# Altium schematic symbol library Schlib1.SchLib: 37 symbols (part 2 of 2)
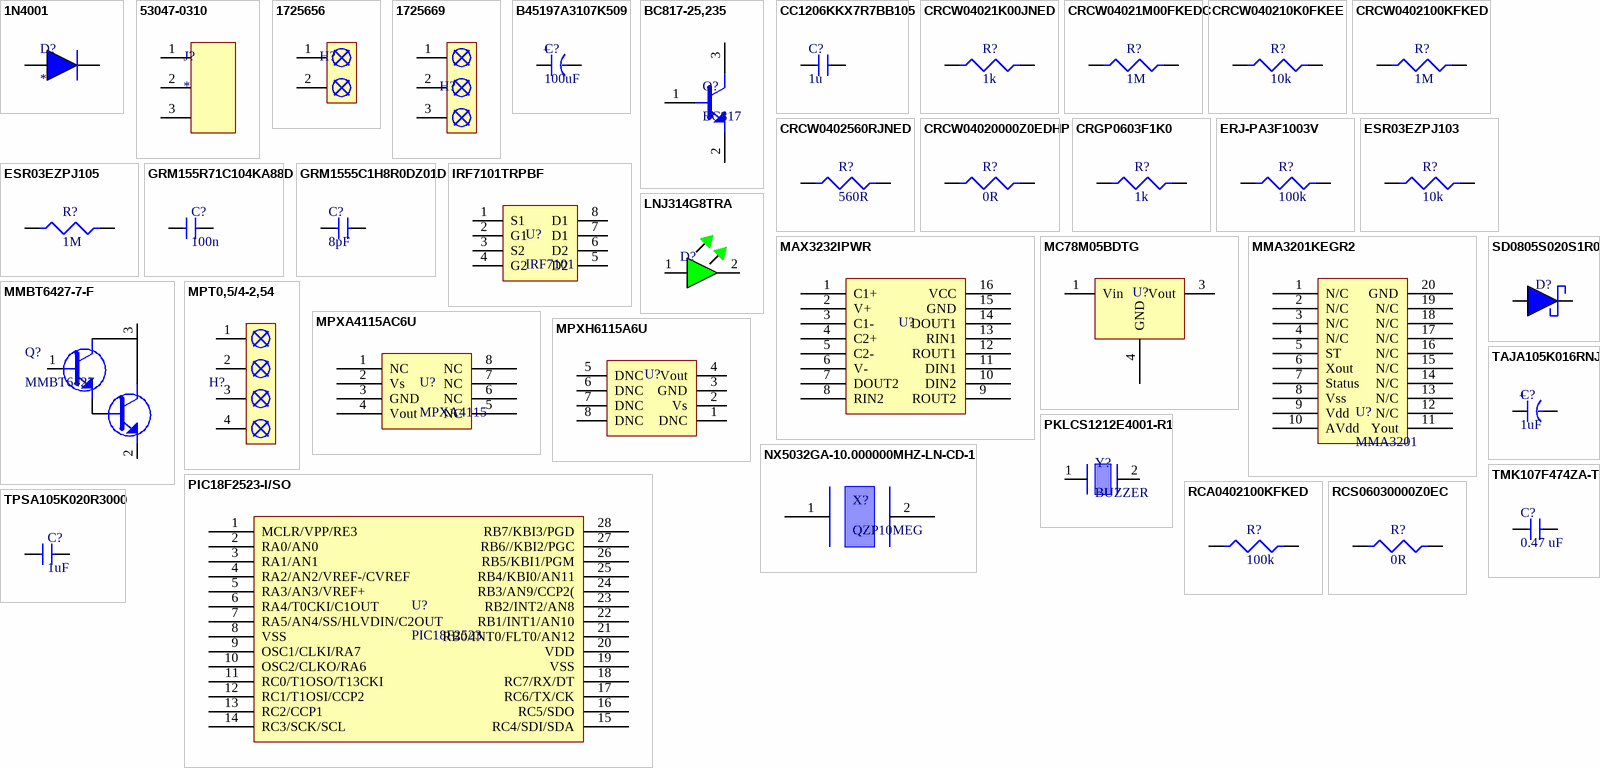
[diagram p1: symbols 1N4001 to TPSA105K020R3000]

## MC78M05BDTG
designator U?, comment MC78M05  (value not drawn)
MC78M00 Series 0.5 A 5 V Fixed Output SMT LDO Voltage Regulator - DPAK; Manufacturer: ON Semiconductor; Manufacturer Part Number: MC78M05BDTG; Output Voltage: 5V; Number of Outputs: 1; Max Input Voltage: 35V; Max Output Current: 500mA; Dropout Voltage: 2V; Min Input Voltage: 7V; Polarity: Positive; Power Supply Rejection Ratio (PSRR): 80dB; Current Rating: 700mA; Input Bias Current: 3.2mA; Accuracy: 4%; Supplier 1: Future Electronics; RoHS: Yes; Category: Voltage Regulators - Linear; Stock 1: 7370; Pricing 1: 1=0,22, 200=0,215, 750=0,205, 2000=0,198, 7500=0,185 (USD); Mount: Surface Mount; Case/Package: DPAK; Number of Pins: 3; Min Operating Temperature: -40°C; Max Operating Temperature: 125°C; Packaging: Rail/Tube; Package Quantity: 75; Output Current: 500mA; Nominal Output Voltage: 5V; Number of Regulators: 1; Min Output Voltage: 5V; Operating Supply Voltage: 35V; Output Type: Fixed; Series: -; Output Configuration: Positive; Nominal Supply Current: 3.2mA; Number of Channels: 1; Length: 6.73mm; Width: 6.22mm; Height: 2.38mm; Radiation Hardening: No; Reach SVHC Compliant: No; Lead Free: Lead Free; Halogen Free: Halogen Free; RoHS Compliant: Yes; ComponentLink1URL: https://datasheet.ciiva.com/2052/mc78m00-d-2052360.pdf?src-supplier=Digikey; ComponentLink1Description: https://datasheet.ciiva.com/2052/mc78m00-d-2052360.pdf?src-supplier=Digikey; ComponentLink2URL: https://datasheet.ciiva.com/3224/mc78m00-d-3224079.pdf?src-supplier=Avnet; ComponentLink2Description: https://datasheet.ciiva.com/3224/mc78m00-d-3224079.pdf?src-supplier=Avnet; ComponentLink3URL: https://datasheet.ciiva.com/16381/mc78m00-d-16381163.pdf?src-supplier=Future+Electronics; ComponentLink3Description: https://datasheet.ciiva.com/16381/mc78m00-d-16381163.pdf?src-supplier=Future+Electronics; ComponentLink4URL: https://datasheet.ciiva.com/7992/1746757-7992652.pdf?src-supplier=Element14; ComponentLink4Description: https://datasheet.ciiva.com/7992/1746757-7992652.pdf?src-supplier=Element14; ComponentLink5URL: https://datasheet.ciiva.com/4882/mc78m00-d-88441-4882543.pdf?src-supplier=Mouser; ComponentLink5Description: https://datasheet.ciiva.com/4882/mc78m00-d-88441-4882543.pdf?src-supplier=Mouser; ComponentLink6URL: https://datasheet.ciiva.com/18435/70099623-18435694.pdf?src-supplier=Allied+Electronics; ComponentLink6Description: https://datasheet.ciiva.com/18435/70099623-18435694.pdf?src-supplier=Allied+Electronics; Supplier Part Number 1: 8771974
footprint MC78M05BDTG (D-PAK, 3-Pads, Body 6,21x6,73mm (max), IPC Low Density)
pins: 1 Vin, 3 Vout, 4 GND

## MMA3201KEGR2
designator U?, comment MMA3201
Accelerometer Dual ±40g 4.75V to 5.25V 47.5mV/g to 52.5mV/g 20-Pin SOIC T/R; Manufacturer: NXP Freescale; Manufacturer Part Number: MMA3201KEGR2; Supplier 1: Newark; RoHS: Yes; Category: Accelerometers; Pricing 1: 1000=10,72 (USD); Mount: Surface Mount; Case/Package: SOIC; Number of Pins: 20; Weight: 0.008826oz; Min Operating Temperature: -40°C; Max Operating Temperature: 125°C; Packaging: Tape and Reel; Series: MMA3201; Package Quantity: 1000; Operating Supply Voltage: 5.25V; RoHS Compliant: Yes; ComponentLink1URL: https://datasheet.ciiva.com/3271/mma3201keg-3271720.pdf?src-supplier=Avnet; ComponentLink1Description: https://datasheet.ciiva.com/3271/mma3201keg-3271720.pdf?src-supplier=Avnet; Supplier Part Number 1: 85AK8921
footprint MMA3201KEG
pins: 1 N/C, 2 N/C, 3 N/C, 4 N/C, 5 ST, 6 Xout, 7 Status, 8 Vss, 9 Vdd, 10 AVdd, 11 Yout, 12 N/C, 13 N/C, 14 N/C, 15 N/C, 16 N/C, 17 N/C, 18 N/C, 19 N/C, 20 GND

## MMBT6427-7-F
designator Q?, comment MMBT6427
MMBT6427 Series 40 V 500 mA NPN Surface Mount Darlington Transistor - SOT-23-3; Manufacturer: Diodes; Manufacturer Part Number: MMBT6427-7-F; Collector Emitter Voltage (VCEO): 40V; hFE Min: 10000; Max Collector Current: 500mA; Max Power Dissipation: 300mW; Emitter Base Voltage (VEBO): 12V; Collector Emitter Saturation Voltage: 1.2V; Number of Elements: 1; Collector-emitter Voltage-Max: 1.5V; Supplier 1: Digikey; RoHS: Yes; Category: BJTs; Stock 1: 25429; Pricing 1: 1=0,21, 10=0,128, 100=0,0796, 500=0,05812, 1000=0,05115 (USD); Mount: Surface Mount; Case/Package: SOT-23; Number of Pins: 3; Weight: 0.000282oz; Min Operating Temperature: -55°C; Max Operating Temperature: 150°C; Packaging: Tape and Reel; Package Quantity: 3000; Polarity: NPN; Collector Base Voltage (VCBO): 40V; Collector Emitter Breakdown Voltage: 40V; Max Breakdown Voltage: 40V; Current Rating: 500mA; Voltage Rating (DC): 40V; Series: Automotive, AEC-Q101; Length: 3.05mm; Width: 1.4mm; Height: 1mm; Radiation Hardening: No; Lead Free: Lead Free; RoHS Compliant: Yes; ComponentLink1URL: https://datasheet.ciiva.com/11211/ds30048-11211443.pdf?src-supplier=Avnet; ComponentLink1Description: https://datasheet.ciiva.com/11211/ds30048-11211443.pdf?src-supplier=Avnet; ComponentLink2URL: https://datasheet.ciiva.com/4459/ds30048-82966-4459317.pdf?src-supplier=Mouser; ComponentLink2Description: https://datasheet.ciiva.com/4459/ds30048-82966-4459317.pdf?src-supplier=Mouser; ComponentLink3URL: https://datasheet.ciiva.com/15139/getdatasheetpartid-67553-15139920.pdf?src-supplier=Verical; ComponentLink3Description: https://datasheet.ciiva.com/15139/getdatasheetpartid-67553-15139920.pdf?src-supplier=Verical; ComponentLink4URL: https://datasheet.ciiva.com/973/ds30048-973062.pdf?src-supplier=Digikey; ComponentLink4Description: https://datasheet.ciiva.com/973/ds30048-973062.pdf?src-supplier=Digikey; ComponentLink5URL: https://datasheet.ciiva.com/973/ds30048-973063.pdf?src-supplier=Digikey; ComponentLink5Description: https://datasheet.ciiva.com/973/ds30048-973063.pdf?src-supplier=Digikey; Supplier Part Number 1: MMBT6427-FDICT-ND
footprint MMBT6427-7-F (SOT223, 3-Leads, Body 2,90x2,36mm (avg), Pitch 1,75mm, IPC Medium Density)
pins: 1, 2, 3

## MPT0,5/4-2,54
designator H?  (value not drawn)
Wire-To-Board Terminal Block Rating to EN: 6 A @ 63 VAC/VDC Rating to UL: 6 A @ 125 VAC/VDC Temperature range: -20...; Manufacturer: Phoenix Contact; Manufacturer Part Number: MPT0,5/4-2,54; Max Current Rating: 6A; Max Supply Voltage: 63V; Wire Gauge (Max): 26AWG; Wire Gauge (Min): 20AWG; Supplier 1: Sourcengine; RoHS: Yes; Category: Terminal Blocks; Stock 1: 49; Number of Pins: 4; Housing Material: 4261ConductorMaterial; Termination: Screw; Number of Rows: 1NUMBER; Orientation: 5491OrientationType; Length: 10.62mm; Depth: 6.2mm; RoHS Compliant: Yes; ComponentLink1URL: https://www.distrelec.biz/Web/Downloads/20/76/uu142076.pdf?mime=application%2Fpdf&src-supplier=Distrelec; ComponentLink1Description: https://www.distrelec.biz/Web/Downloads/20/76/uu142076.pdf?mime=application%2Fpdf&src-supplier=Distrelec; Supplier Part Number 1: MPT0,5/4-2,54
footprint MPT 0,5/ 4-2,54
pins: 1, 2, 3, 4

## MPXA4115AC6U
designator U?, comment MPXA4115
Pressure Sensor 2.18 PSI ~ 22.48 PSI (15 kPa ~ 155 kPa) Absolute Male - 0.13" (3.17mm) Tube 0.2 V ~ 4.8 V 8-SMD, Gull Wing, Top Port; Manufacturer: NXP Semiconductors; Manufacturer Part Number: MPXA4115AC6U; Output Type: Analog Voltage,Analog; Accuracy: 1.5%; Port Style: Barbless; Max Pressure: 58.02PSI; Min Supply Voltage: 4.85V; Max Supply Voltage: 5.35V; Operating Supply Voltage: 5V; Supply Current: 7mA; Supplier 1: Arrow Electronics; RoHS: No; Category: Pressure Sensors; Stock 1: 160; Pricing 1: 40=15,7233, 80=15,4811, 120=14,4416 (USD); Case/Package: SMD/SMT; Number of Pins: 8; Min Operating Temperature: -40°C; Max Operating Temperature: 125°C; Series: MPXA4115A; Pressure Type: Absolute; Operating Pressure: 22.48PSI; Termination: PCB; Reach SVHC Compliant: No; ComponentLink1URL: https://datasheet.ciiva.com/2825/mpx4115a-2825422.pdf?src-supplier=Digikey; ComponentLink1Description: https://datasheet.ciiva.com/2825/mpx4115a-2825422.pdf?src-supplier=Digikey; ComponentLink2URL: https://datasheet.ciiva.com/1513/193192-1513860.pdf?src-supplier=Element14; ComponentLink2Description: https://datasheet.ciiva.com/1513/193192-1513860.pdf?src-supplier=Element14; Supplier Part Number 1: MPXA4115AC6U
footprint MPXA4115AC6U (SOP, 8-Leads, Body 10,66x10,66mm, Pitch 2,54mm, IPC Medium Density)
pins: 1 NC, 2 Vs, 3 GND, 4 Vout, 5 NC, 6 NC, 7 NC, 8 NC

## MPXH6115A6U
designator U?  (value not drawn)
SENSOR ABS PRESS 16.7PSI MAX; Manufacturer: NXP Semiconductors; Manufacturer Part Number: MPXH6115A6U; Output Type: Analog Voltage,Analog; Pressure Type: Absolute; Operating Pressure: 16.68PSI; Accuracy: 1.5%; Port Style: No Port; Max Pressure: 58.02PSI; Min Supply Voltage: 4.75V; Max Supply Voltage: 5.25V; Operating Supply Voltage: 5V; Supply Current: 6mA; Supplier 1: Arrow Electronics; RoHS: No; Category: Pressure Sensors; Stock 1: 5; Pricing 1: 65=9,711, 130=9,651, 520=8,857, 1040=8,847 (USD); Case/Package: SSOP; Number of Pins: 8; Min Operating Temperature: -40°C; Max Operating Temperature: 125°C; Series: MPXH6115A; Termination: PCB; Reach SVHC Compliant: No; ComponentLink1URL: https://datasheet.ciiva.com/2825/mpxa6115a-2825344.pdf?src-supplier=Digikey; ComponentLink1Description: https://datasheet.ciiva.com/2825/mpxa6115a-2825344.pdf?src-supplier=Digikey; ComponentLink2URL: https://datasheet.ciiva.com/1513/1748876-1513862.pdf?src-supplier=Element14; ComponentLink2Description: https://datasheet.ciiva.com/1513/1748876-1513862.pdf?src-supplier=Element14; Supplier Part Number 1: MPXH6115A6U
footprint MPXH6115A6U (SOP, 8-Leads, Body 7,37x7,37mm, Pitch 1,27mm, IPC Medium Density)
pins: 1 DNC, 2 Vs, 3 GND, 4 Vout, 5 DNC, 6 DNC, 7 DNC, 8 DNC

## NX5032GA-10.000000MHZ-LN-CD-1
designator X?, comment QZP10MEG
Crystal 10.0000MHZ 8PF SMD; Manufacturer: NDK; Manufacturer Part Number: NX5032GA-10.000000MHZ-LN-CD-1; Frequency: 10MHz; Frequency Tolerance: 50ppm; ESR (Equivalent Series Resistance): 120R; Supplier 1: Richardson RFPD; RoHS: Yes; Category: Crystals; Mount: Surface Mount; Case/Package: SMD/SMT; Number of Pins: 2; Min Operating Temperature: -10°C; Max Operating Temperature: 70°C; Package Quantity: 1; Load Capacitance: 8pF; Packaging: Cut Tape; Frequency Stability: 50ppm; Series: NX5032GA; Length: 0.197inch; Width: 0.126inch; Height: 0.059inch; ComponentLink1URL: https://datasheet.ciiva.com/856/nx5032ga-856809.pdf?src-supplier=Digikey; ComponentLink1Description: https://datasheet.ciiva.com/856/nx5032ga-856809.pdf?src-supplier=Digikey; ComponentLink2URL: https://datasheet.ciiva.com/856/nx5032ga-856810.pdf?src-supplier=Digikey; ComponentLink2Description: https://datasheet.ciiva.com/856/nx5032ga-856810.pdf?src-supplier=Digikey; ComponentLink3URL: https://datasheet.ciiva.com/856/nx5032ga-856811.pdf?src-supplier=Digikey; ComponentLink3Description: https://datasheet.ciiva.com/856/nx5032ga-856811.pdf?src-supplier=Digikey; Supplier Part Number 1: NX5032GA-10.00E
footprint NX5032GA-10.000000MHZ
pins: 1, 2

## PIC18F2523-I/SO
designator U?, comment PIC18F2523
Microchip PIC18F2523-I/SO; 8bit PIC Microcontroller; 40MHz; 32 kB Flash; 28-Pin SOIC; Interface: I2C,SPI,UART,USART; RAM Size: 1.5KB; Max Supply Voltage: 5.5V; Min Supply Voltage: 4.2V; Number of PWM Channels: 2; Max Power Dissipation: 1W; Number of I/Os: 25; Number of Timers/Counters: 4; Number of ADC Channels: 10; Density: 32KB; Number of UART Channels: 1; Data Bus Width: 8b; Number of Bits: 8; Oscillator Type: Internal; Watchdog Timer: Yes; Peripherals: Brown-out Detect/Reset,POR,PWM,WDT,HLVD,I2C; Supplier 1: Arrow Electronics; Manufacturer: Microchip; Manufacturer Part Number: PIC18F2523-I/SO; RoHS: Yes; Category: Microcontrollers; Stock 1: 54; Pricing 1: 54=4,674, 108=4,667 (USD); Mount: Surface Mount; Case/Package: SOIC; Number of Pins: 28; Min Operating Temperature: -40°C; Max Operating Temperature: 85°C; Frequency: 40MHz; Packaging: Rail/Tube; Package Quantity: 27; Number of Programmable I/O: 25; Max Frequency: 40MHz; Number of SPI Channels: 1; Number of I2C Channels: 1; Memory Type: FLASH; Termination: SMD/SMT; Memory Size: 32KB; Core Architecture: PIC; Series: PIC® 18F; Length: 17.9mm; Width: 7.5mm; Height: 2.35mm; Radiation Hardening: No; Reach SVHC Compliant: No; Lead Free: Lead Free; RoHS Compliant: Yes; ComponentLink1URL: https://datasheet.ciiva.com/1493/39755c-1493947.pdf?src-supplier=Digikey; ComponentLink1Description: https://datasheet.ciiva.com/1493/39755c-1493947.pdf?src-supplier=Digikey; ComponentLink2URL: https://datasheet.ciiva.com/16478/39755c-16478411.pdf?src-supplier=Future+Electronics; ComponentLink2Description: https://datasheet.ciiva.com/16478/39755c-16478411.pdf?src-supplier=Future+Electronics; ComponentLink3URL: https://datasheet.ciiva.com/7774/39755c-7774347.pdf?src-supplier=Element14; ComponentLink3Description: https://datasheet.ciiva.com/7774/39755c-7774347.pdf?src-supplier=Element14; Supplier Part Number 1: PIC18F2523-I/SO
footprint PIC18F2523-I/SO (SOIC, 28-Leads, Body 17,90x7,50mm, Pitch 1,27mm, IPC Low Density)
pins: 1 MCLR/VPP/RE3, 2 RA0/AN0, 3 RA1/AN1, 4 RA2/AN2/VREF-/CVREF, 5 RA3/AN3/VREF+, 6 RA4/T0CKI/C1OUT, 7 RA5/AN4/SS/HLVDIN/C2OUT, 8 VSS, 9 OSC1/CLKI/RA7, 10 OSC2/CLKO/RA6, 11 RC0/T1OSO/T13CKI, 12 RC1/T1OSI/CCP2, 13 RC2/CCP1, 14 RC3/SCK/SCL, 15 RC4/SDI/SDA, 16 RC5/SDO, 17 RC6/TX/CK, 18 RC7/RX/DT, 19 VSS, 20 VDD, 21 RB0/INT0/FLT0/AN12, 22 RB1/INT1/AN10, 23 RB2/INT2/AN8, 24 RB3/AN9/CCP2(, 25 RB4/KBI0/AN11, 26 RB5/KBI1/PGM, 27 RB6//KBI2/PGC, 28 RB7/KBI3/PGD

## PKLCS1212E4001-R1
designator Y?, comment BUZZER
AUDIO PIEZO TRANSDUCER 25V SMD / Audio Buzzer Piezo 75dB Surface Mount Solder Pad T/R; Manufacturer: Murata; Manufacturer Part Number: PKLCS1212E4001-R1; Self Resonant Frequency: 4kHz; Voltage Rating: 1.5V; Nominal Supply Voltage: 3V; Washable: No; Supplier: Mouser; Supplier Part Number: 81-PKLCS1212E4001; RoHS: Yes; Category: Speakers; Stock: 27239; Pricing: 1=1,04, 10=0,86, 50=0,758, 100=0,718, 1000=0,534, 10000=0,529 (USD); Mounting Technology: Surface Mount; Min Operating Temperature: -20°C; Max Operating Temperature: 70°C; Max Supply Voltage: 25V; Frequency: 4kHz; Packaging: Tape and Reel; Package Quantity: 1; Termination: Solder; Clock Frequency: 4kHz; Voltage Rating (DC): 25V; Series: PK; Diameter: 12mm; Length: 12mm; Width: 12mm; Height: 3mm; Depth: 12mm; Radiation Hardening: No; Reach SVHC Compliant: No; Lead Free: Lead Free; ComponentLink1URL: https://datasheet.ciiva.com/4625/pklcs-datasheet-202916-4625328.pdf?src-supplier=Mouser; ComponentLink1Description: https://datasheet.ciiva.com/4625/pklcs-datasheet-202916-4625328.pdf?src-supplier=Mouser; ComponentLink2URL: https://datasheet.ciiva.com/16224/s0039e-16224145.pdf?src-supplier=Future+Electronics; ComponentLink2Description: https://datasheet.ciiva.com/16224/s0039e-16224145.pdf?src-supplier=Future+Electronics; ComponentLink3URL: https://datasheet.ciiva.com/11776/0900766b807da0c7-11776763.pdf?src-supplier=Rs; ComponentLink3Description: https://datasheet.ciiva.com/11776/0900766b807da0c7-11776763.pdf?src-supplier=Rs; ComponentLink4URL: https://datasheet.ciiva.com/3333/03787173-3333942.pdf?src-supplier=Distrelec; ComponentLink4Description: https://datasheet.ciiva.com/3333/03787173-3333942.pdf?src-supplier=Distrelec; ComponentLink5URL: https://datasheet.ciiva.com/1323/1626578-1323984.pdf?src-supplier=Element14; ComponentLink5Description: https://datasheet.ciiva.com/1323/1626578-1323984.pdf?src-supplier=Element14; ComponentLink6URL: https://datasheet.ciiva.com/0/s0039e-123.pdf?src-supplier=Digikey; ComponentLink6Description: https://datasheet.ciiva.com/0/s0039e-123.pdf?src-supplier=Digikey; ComponentLink7URL: https://datasheet.ciiva.com/0/s0039e-124.pdf?src-supplier=Digikey; ComponentLink7Description: https://datasheet.ciiva.com/0/s0039e-124.pdf?src-supplier=Digikey; ComponentLink8URL: https://datasheet.ciiva.com/0/s0039e-125.pdf?src-supplier=Digikey; ComponentLink8Description: https://datasheet.ciiva.com/0/s0039e-125.pdf?src-supplier=Digikey; ComponentLink9URL: https://datasheet.ciiva.com/18141/p37e-18141127.pdf?src-supplier=Verical; ComponentLink9Description: https://datasheet.ciiva.com/18141/p37e-18141127.pdf?src-supplier=Verical; ComponentLink10URL: https://datasheet.ciiva.com/8084/p37e-8084265.pdf?src-supplier=Avnet; ComponentLink10Description: https://datasheet.ciiva.com/8084/p37e-8084265.pdf?src-supplier=Avnet; ComponentLink11URL: https://datasheet.ciiva.com/1323/9058-1323985.pdf?src-supplier=Element14; ComponentLink11Description: https://datasheet.ciiva.com/1323/9058-1323985.pdf?src-supplier=Element14
footprint PKLCS1212E4001-R1
pins: 1, 2

## RCA0402100KFKED
designator R?, comment 100k
RCA FIXED RESISTOR 0402 (1005Metric) Chip Resistor ±1% ±100ppm/C 100kOhm 0.063W 1/16W; Manufacturer: Vishay Dale; Manufacturer Part Number: RCA0402100KFKED; Resistance: 100kR; Max Power Dissipation: 63mW; Temperature Coefficient: 100ppm/°C; Voltage Rating (DC): 50V; Supplier 1: Mouser; RoHS: Yes; Category: Chip SMD Resistors; Stock 1: 20781; Pricing 1: 1=0,1, 10=0,027, 50=0,027, 100=0,016, 1000=0,013, 2500=0,011, 10000=0,01 (USD); Case/Package: 0402; Case Code (Metric): 1005; Case Code (Imperial): 0402; Contact Plating: Tin; Min Operating Temperature: -55°C; Max Operating Temperature: 155°C; Packaging: Tape and Reel; Series: RCA; Tolerance: 1%; Number of Terminations: 2; Features: Automotive AEC-Q200,Anti-Sulfur; Power Rating: 63mW; Resistor Type: Thick Film; Voltage Rating: 50V; Resistance Tolerance: 1%; Length: 0.039inch; Width: 0.02inch; Height: 0.016inch; Radiation Hardening: No; RoHS Compliant: Yes; Lead Free: Lead Free; Reach SVHC Compliant: No; ComponentLink1URL: https://datasheet.ciiva.com/8980/rcae3-8980646.pdf?src-supplier=Avnet; ComponentLink1Description: https://datasheet.ciiva.com/8980/rcae3-8980646.pdf?src-supplier=Avnet; Supplier Part Number 1: 71-RCA0402100KFKED
footprint RCA0402100KFKED
pins: 1, 2

## RCS06030000Z0EC
designator R?, comment 0R
Res Thick Film 0603 0 Ohm Pad SMD T/R Automotive AEC-Q200 Medical; Manufacturer: Vishay Dale; Manufacturer Part Number: RCS06030000Z0EC; Power Rating: 250mW; Voltage Rating: 75V; Supplier 1: Mouser; RoHS: Yes; Category: Chip SMD Resistors; Stock 1: 202444; Pricing 1: 1=0,11, 10=0,053, 50=0,053, 100=0,025, 1000=0,016, 2500=0,012, 10000=0,011, 20000=0,009 (USD); Case/Package: 0603; Min Operating Temperature: -55°C; Max Operating Temperature: 155°C; Resistance: 0R; Height: 500um; ComponentLink1URL: http://www.vishay.com/docs/20065/rcse3.pdf?src-supplier=Digikey; ComponentLink1Description: http://www.vishay.com/docs/20065/rcse3.pdf?src-supplier=Digikey; Supplier Part Number 1: 71-RCS06030000Z0EC
footprint RCS06030000Z0EC
pins: 1, 2

## SD0805S020S1R0
designator D?  (value not drawn)
Small Signal Schottky Diode, Single, 20 V, 1 A, 450 Mv, 10 A, 125 C Rohs Compliant: Yes; Manufacturer: Kyocera AVX; Manufacturer Part Number: SD0805S020S1R0; Max Surge Current: 10A; Forward Voltage: 450mV; Forward Current: 1A; Max Reverse Current: 200uA; Max Repetitive Reverse Voltage (Vrrm): 20V; Supplier: Digikey; Supplier Part Number: 478-7800-1-ND; RoHS: Yes; Category: Rectifier Diodes; Stock: 72775; Pricing: 1=0,51, 10=0,311, 100=0,1972, 500=0,14792, 1000=0,132, 3000=0,11174, 6000=0,10152, 9000=0,09631, 15000=0,09046, 21000=0,08699, 30000=0,08362, 75000=0,07622 (USD); Mounting Technology: Surface Mount; Case/Package: 0805; Pins: 2; Case Code (Metric): 2012; Case Code (Imperial): 0805; Min Operating Temperature: -55°C; Max Operating Temperature: 125°C; Packaging: Cut Tape; Average Rectified Current: 1A; Max Reverse Leakage Current: 200uA; Max Forward Surge Current (Ifsm): 10A; Peak Non-Repetitive Surge Current: 10A; Max Reverse Voltage (DC): 20V; Series: -; Radiation Hardening: No; Reach SVHC Compliant: No; RoHS Compliant: Yes; ComponentLink1URL: https://datasheet.ciiva.com/29883/schottky-29883740.pdf?src-supplier=Avnet; ComponentLink1Description: https://datasheet.ciiva.com/29883/schottky-29883740.pdf?src-supplier=Avnet; ComponentLink2URL: https://datasheet.ciiva.com/29883/schottky-29883741.pdf?src-supplier=Avnet; ComponentLink2Description: https://datasheet.ciiva.com/29883/schottky-29883741.pdf?src-supplier=Avnet; ComponentLink3URL: https://datasheet.ciiva.com/13084/schottky-221155-13084174.pdf?src-supplier=Mouser; ComponentLink3Description: https://datasheet.ciiva.com/13084/schottky-221155-13084174.pdf?src-supplier=Mouser
footprint SD0805S020S1R0
pins: 1, 2

## TAJA105K016RNJ
designator C?, comment 1uF
Cap Tant Solid 1uF 16V A CASE 10%( 3.2 X 1.6 X 1.6mm) Inward L SMD 3216-18 11 Ohm 125C T/R; Manufacturer: Kyocera AVX; Manufacturer Part Number: TAJA105K016RNJ; Dielectric Material: Tantalum; Tolerance: 20%; ESR (Equivalent Series Resistance): 11R; Leakage Current: 500nA; Dissipation Factor: 4%; Life (Hours): 2000Hour; Ripple Current: 83mA; Supplier 1: Digikey; RoHS: Yes; Category: Tantalum Capacitors; Stock 1: 80915; Pricing 1: 1=0,38, 10=0,225, 50=0,1626, 100=0,1431, 500=0,11, 1000=0,09966 (USD); Mount: Surface Mount,PCB; Case/Package: 1206; Number of Pins: 2; Case Code (Metric): 3216; Case Code (Imperial): 1206; Weight: 0.000571oz; Min Operating Temperature: -55°C; Max Operating Temperature: 125°C; Capacitance: 1uF; Voltage Rating (DC): 16V; Voltage Rating: 16V; Packaging: Tape and Reel; Termination: SMD/SMT; Voltage: 16V; Features: General Purpose; Series: TAJ; Voltage Rating (AC): 16V; Length: 3.2mm; Width: 1.6mm; Height: 1.6mm; Depth: 1.6mm; Lead Pitch: 1.1mm; Reach SVHC Compliant: No; Lead Free: Lead Free; RoHS Compliant: Yes; ComponentLink1URL: https://datasheet.ciiva.com/263/taj-263409.pdf?src-supplier=Digikey; ComponentLink1Description: https://datasheet.ciiva.com/263/taj-263409.pdf?src-supplier=Digikey; ComponentLink2URL: https://datasheet.ciiva.com/263/taj-263410.pdf?src-supplier=Digikey; ComponentLink2Description: https://datasheet.ciiva.com/263/taj-263410.pdf?src-supplier=Digikey; ComponentLink3URL: https://datasheet.ciiva.com/263/taj-263411.pdf?src-supplier=Digikey; ComponentLink3Description: https://datasheet.ciiva.com/263/taj-263411.pdf?src-supplier=Digikey; ComponentLink4URL: https://datasheet.ciiva.com/18710/taj-eng-18710647.pdf?src-supplier=Distrelec; ComponentLink4Description: https://datasheet.ciiva.com/18710/taj-eng-18710647.pdf?src-supplier=Distrelec; ComponentLink5URL: https://datasheet.ciiva.com/7832/1703059-7832429.pdf?src-supplier=Element14; ComponentLink5Description: https://datasheet.ciiva.com/7832/1703059-7832429.pdf?src-supplier=Element14; ComponentLink6URL: https://datasheet.ciiva.com/7832/1703059-7832430.pdf?src-supplier=Element14; ComponentLink6Description: https://datasheet.ciiva.com/7832/1703059-7832430.pdf?src-supplier=Element14; ComponentLink7URL: https://datasheet.ciiva.com/7832/1680476-7832431.pdf?src-supplier=Element14; ComponentLink7Description: https://datasheet.ciiva.com/7832/1680476-7832431.pdf?src-supplier=Element14; ComponentLink8URL: https://datasheet.ciiva.com/7832/taj-7832810.pdf?src-supplier=Element14; ComponentLink8Description: https://datasheet.ciiva.com/7832/taj-7832810.pdf?src-supplier=Element14; ComponentLink9URL: https://datasheet.ciiva.com/7832/taj-7832811.pdf?src-supplier=Element14; ComponentLink9Description: https://datasheet.ciiva.com/7832/taj-7832811.pdf?src-supplier=Element14; Supplier Part Number 1: 478-1649-1-ND
footprint TAJA105K016RNJ
pins: 1, 2
text: +

## TMK107F474ZA-T
designator C?, comment 0.47 uF
Multilayer Ceramic Capacitors (High dielectric type), 25V, 0.47 uF, +80%, 0603, Y5V/F, RoHS; Manufacturer: Taiyo; Manufacturer Part Number: TMK107F474ZA-T; Value: 470nF; Dielectric: Y5V; Supplier: Newark; Supplier Part Number: 08P5185; RoHS: No; Case/Package: 0603; Pins: 2; Packaging: Cut Tape; Voltage Rating (DC): 25V; Length: 1.6mm; Width: 800um; Height: 800um; Halogen Free: Halogen Free; Lead Free: Lead Free
footprint TMK107F474ZA-T
pins: 1, 2

## TPSA105K020R3000
designator C?, comment 1uF
Cap Tant Solid 1uF 20V A CASE 10%( 3.2 X 1.6 X 1.6mm) Inward L SMD 3216-18 3 Ohm 125C T/R; Manufacturer: Kyocera AVX; Manufacturer Part Number: TPSA105K020R3000; Dielectric Material: Tantalum; ESR (Equivalent Series Resistance): 3R; Polarity: Polar; Leakage Current: 500nA; Dissipation Factor: 4%; Supplier: Digikey; Supplier Part Number: 478-2399-1-ND; RoHS: Yes; Category: Tantalum Capacitors; Stock: 46298; Pricing: 1=0,76, 10=0,459, 50=0,3398, 100=0,3028, 500=0,2398, 1000=0,22014, 2000=0,20387, 4000=0,19039, 6000=0,18361, 10000=0,17607, 14000=0,17164, 20000=0,16737, 50000=0,15812 (USD); Mounting Technology: Surface Mount,PCB; Case/Package: 1206; Pins: 2; Case Code (Metric): 3216; Case Code (Imperial): 1206; Weight: 0.000571oz; Min Operating Temperature: -55°C; Max Operating Temperature: 125°C; Value: 1uF; Tolerance: 10%; Voltage Rating: 20V; Packaging: Tape and Reel; Package Quantity: 1; Termination: SMD/SMT; Voltage Rating (DC): 20V; Voltage: 20V; Features: General Purpose; Series: TPS; Construction: Flat; Length: 3.2mm; Width: 1.6mm; Height: 1.6mm; Height - Seated (Max): 0.071inch; Depth: 1.6mm; Lead Pitch: 1.1mm; Radiation Hardening: No; Reach SVHC Compliant: No; Lead Free: Lead Free; RoHS Compliant: Yes; ComponentLink1URL: https://datasheet.ciiva.com/26341/806571-da-01-en-smd-tantal1uf-20v-10-3-000r-2000st-26341825.pdf?src-supplier=Conrad; ComponentLink1Description: https://datasheet.ciiva.com/26341/806571-da-01-en-smd-tantal1uf-20v-10-3-000r-2000st-26341825.pdf?src-supplier=Conrad; ComponentLink2URL: https://datasheet.ciiva.com/263/tps-263911.pdf?src-supplier=Digikey; ComponentLink2Description: https://datasheet.ciiva.com/263/tps-263911.pdf?src-supplier=Digikey; ComponentLink3URL: https://datasheet.ciiva.com/263/tps-263912.pdf?src-supplier=Digikey; ComponentLink3Description: https://datasheet.ciiva.com/263/tps-263912.pdf?src-supplier=Digikey; ComponentLink4URL: https://datasheet.ciiva.com/263/tps-263913.pdf?src-supplier=Digikey; ComponentLink4Description: https://datasheet.ciiva.com/263/tps-263913.pdf?src-supplier=Digikey; ComponentLink5URL: https://datasheet.ciiva.com/7832/1441576-7832617.pdf?src-supplier=Element14; ComponentLink5Description: https://datasheet.ciiva.com/7832/1441576-7832617.pdf?src-supplier=Element14; ComponentLink6URL: https://datasheet.ciiva.com/7832/1441576-7832845.pdf?src-supplier=Element14; ComponentLink6Description: https://datasheet.ciiva.com/7832/1441576-7832845.pdf?src-supplier=Element14; ComponentLink7URL: https://datasheet.ciiva.com/7832/1441576-7832846.pdf?src-supplier=Element14; ComponentLink7Description: https://datasheet.ciiva.com/7832/1441576-7832846.pdf?src-supplier=Element14; ComponentLink8URL: https://datasheet.ciiva.com/7832/tps-7832847.pdf?src-supplier=Element14; ComponentLink8Description: https://datasheet.ciiva.com/7832/tps-7832847.pdf?src-supplier=Element14; ComponentLink9URL: https://datasheet.ciiva.com/28555/1932865-28555241.pdf?src-supplier=Element14; ComponentLink9Description: https://datasheet.ciiva.com/28555/1932865-28555241.pdf?src-supplier=Element14; ComponentLink10URL: https://datasheet.ciiva.com/12910/tps-23028-12910247.pdf?src-supplier=Mouser; ComponentLink10Description: https://datasheet.ciiva.com/12910/tps-23028-12910247.pdf?src-supplier=Mouser; ComponentLink11URL: https://datasheet.ciiva.com/16224/tps-16224686.pdf?src-supplier=Future+Electronics; ComponentLink11Description: https://datasheet.ciiva.com/16224/tps-16224686.pdf?src-supplier=Future+Electronics; ComponentLink12URL: https://datasheet.ciiva.com/14590/70001047-14590583.pdf?src-supplier=Allied+Electronics; ComponentLink12Description: https://datasheet.ciiva.com/14590/70001047-14590583.pdf?src-supplier=Allied+Electronics; ComponentLink13URL: https://datasheet.ciiva.com/14590/70001047-14590587.pdf?src-supplier=Allied+Electronics; ComponentLink13Description: https://datasheet.ciiva.com/14590/70001047-14590587.pdf?src-supplier=Allied+Electronics; ComponentLink14URL: https://datasheet.ciiva.com/3004/tps-3004579.pdf?src-supplier=Avnet; ComponentLink14Description: https://datasheet.ciiva.com/3004/tps-3004579.pdf?src-supplier=Avnet
footprint TPSA105K020R3000
pins: 1, 2